# EAGLE library part LM3478 (library ICs)
PWM Controller Current Mode, 40V-2.97V supply, 1 MHz, 1A out, SOIC-8
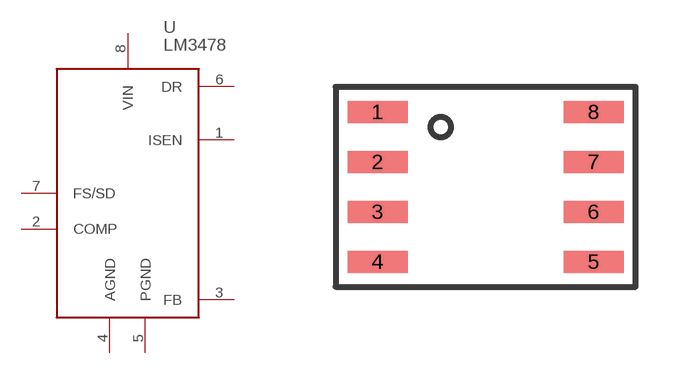
[diagram p145: symbol with the pads of SO8; footprint SO8]

Designator prefix U

## LM3478 (DIGIKEY: LM3478MA/NOPB-ND; HEIGHT: 2; PRICE_PER: 2.01; VALUE: LM3478)  [SO8]
1  ISEN
2  COMP
3  FB
4  AGND
5  PGND
6  DR
7  FS/SD
8  VIN

## Footprint SO8 (pad centres in mm)
smd 1.5 x 0.55: 1 -2.7,1.875; 2 -2.7,0.625; 3 -2.7,-0.625; 4 -2.7,-1.875; 5 2.7,-1.875; 6 2.7,-0.625; 7 2.7,0.625; 8 2.7,1.875